# Altium schematic symbol library pin5head.SchLib: 1 symbol
Pins are listed as number, name and electrical type; pins without a type are passive.

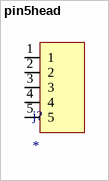
[diagram p0: symbol pin5head]

## pin5head
designator j?
footprint pin5head
pins: 1, 2, 3, 4, 5